# Altium schematic symbol library AD5292BRUZ-50-RL7.SchLib: 1 symbol
Pins are listed as number, name and electrical type; pins without a type are passive.

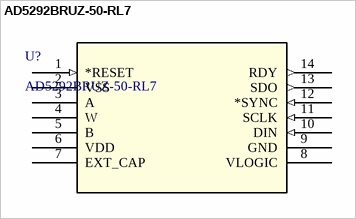
[diagram p0: symbol AD5292BRUZ-50-RL7]

## AD5292BRUZ-50-RL7
designator U?
256-/1024-Position, Digital Potentiometers with Maximum Â±1% R-Tolerance Error and 20-TP Memory; Manufacturer_Name: Analog Devices Inc; Type: Data Acquisition; Copyright: Copyright (C) 2026 Ultra Librarian. All rights reserved.; Manufacturer_Part_Number: AD5292BRUZ-50-RL7; Datasheet: https://www.analog.com/media/en/technical-documentation/data-sheets/AD5291_5292.pdf; RefDes: RefDes
footprint RU-14_ADI
pins: 1 *RESET (in), 2 VSS (power), 3 A, 4 W, 5 B, 6 VDD (power), 7 EXT_CAP (power), 8 VLOGIC (power), 9 GND (power), 10 DIN (in), 11 SCLK (in), 12 *SYNC (in), 13 SDO (out), 14 RDY (out)